# EAGLE library part EX_GAS_SOCKET (library wicked-device)
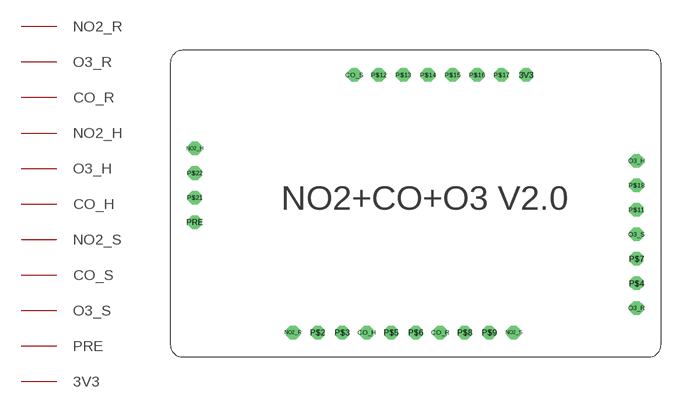
[diagram p16: symbol with the pads of EX_GAS_SENSOR_SOCKET; footprint EX_GAS_SENSOR_SOCKET]

Designator prefix -

## EX_GAS_SOCKET  [EX_GAS_SENSOR_SOCKET]
3V3  3V3
CO_H  CO_H
CO_R  CO_R
CO_S  CO_S
NO2_H  NO2_H
NO2_R  NO2_R
NO2_S  NO2_S
O3_H  O3_H
O3_R  O3_R
O3_S  O3_S
PRE  PRE

## Footprint EX_GAS_SENSOR_SOCKET (pad centres in mm)
drill 0.889 octagon: 3V3 36.83,29.21; CO_H 20.32,2.54; CO_R 27.94,2.54; CO_S 19.05,29.21; NO2_H 2.54,21.59; NO2_R 12.7,2.54; NO2_S 35.56,2.54; O3_H 48.26,20.32; O3_R 48.26,5.08; O3_S 48.26,12.7; P$2 15.24,2.54; P$3 17.78,2.54; P$4 48.26,7.62; P$5 22.86,2.54; P$6 25.4,2.54; P$7 48.26,10.16; P$8 30.48,2.54; P$9 33.02,2.54; P$11 48.26,15.24; P$12 21.59,29.21; P$13 24.13,29.21; P$14 26.67,29.21; P$15 29.21,29.21; P$16 31.75,29.21; P$17 34.29,29.21; P$18 48.26,17.78; P$21 2.54,16.51; P$22 2.54,19.05; PRE 2.54,13.97